# Altium footprint library A_Active.PcbLib: 13 footprints
Each footprint in its own frame and in the unit in brackets; x right, y up, seen from the top. Pads: shape width x height; smd on the part's side, far side on the other; paste and mask are expansions set on the pad; w line width, h text height; cw(c..) or ccw(c..) is an arc to the next point about the centre after c.
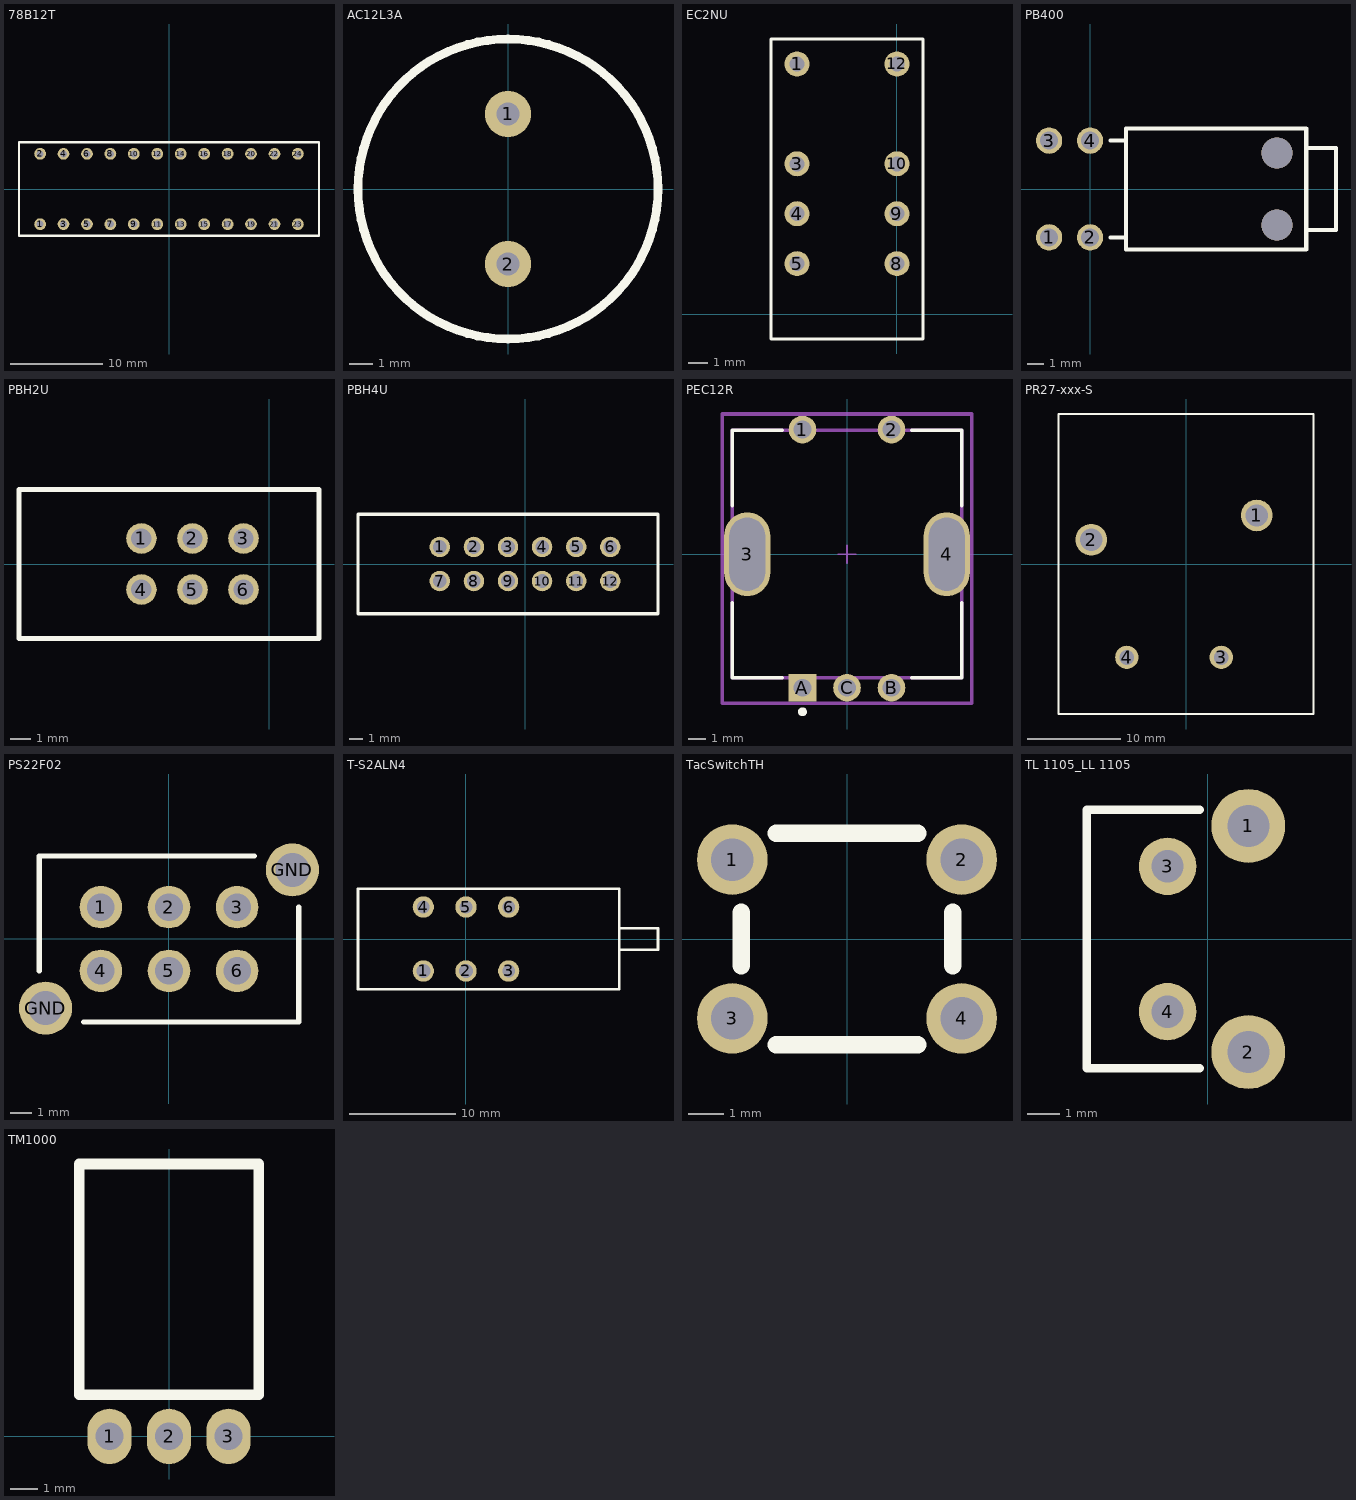
[diagram p0: the footprints below, top view; thin cyan lines are the x and y axes]

## 78B12T [mil]
pads (24):
  round 50 hole 30: 1(-550,-150) 2(-550,150) 3(-450,-150) 4(-450,150) 5(-350,-150) 6(-350,150) 7(-250,-150) 8(-250,150) 9(-150,-150) 10(-150,150) 11(-50,-150) 12(-50,150) 13(50,-150) 14(50,150) 15(150,-150) 16(150,150) 17(250,-150) 18(250,150) 19(350,-150) 20(350,150) 21(450,-150) 22(450,150) 23(550,-150) 24(550,150)
Top Overlay:
  lines w10: -640,-200 -640,200 640,200 640,-200 -640,-200

## AC12L3A [mm]
pads (2):
  round 2 hole 1 unplated: 1(0,3.25) 2(0,-3.25)
Top Overlay:
  circle w0.381: c0,0 r6.5
3D body: height 9, standoff 0, extent -6.5,-6.5 6.5,6.5

## EC2NU [mil]
pads (8):
  round 50 / inner round 60 / far side round 50 hole 30: 1(-200,501) 3(-200,301) 4(-200,201) 5(-200,101) 8(0,101) 9(0,201) 10(0,301) 12(0,501)
Top Overlay:
  lines w6: -252.5,-50 -252.5,551 52.5,551 52.5,-50 -252.5,-50
3D body "EC2NU.step": height 370.12, standoff -100, extent -247.48,-44.99 47.49,545.99

## PB400 [mm]
pads (6):
  round 1.6 hole 1.1: 1(-2.5,-2.95) 2(0,-2.95) 3(-2.5,2.95) 4(0,2.95)
  round 1.9 hole 1.9 unplated: ""(11.4,-2.2) ""(11.4,2.2)
Top Overlay:
  lines w0.254: 1.25,-2.95 2.19,-2.95 ; 1.25,2.95 2.19,2.95 ; 13.19,-2.5 15,-2.5 15,2.5 13.19,2.5 ; 2.19,-3.7 2.19,3.7 13.19,3.7 13.19,-3.7 2.19,-3.7
3D body "PB400xxQX.stp": height 10.32, standoff -2.43, extent -3.405,-3.7 24.205,3.7

## PBH2U [mm]
pads (6):
  round 1.5 hole 1: 1(-6.25,1.25) 2(-3.75,1.25) 3(-1.25,1.25) 4(-6.25,-1.25) 5(-3.75,-1.25) 6(-1.25,-1.25)
Top Overlay:
  lines w0.254: -12.25,-3.65 -12.25,3.65 2.45,3.65 2.45,-3.65 -12.25,-3.65
3D body "PHB2UEESN1ANS.stp": height 10.05, standoff -3.45, extent -23.05,-3.71 2.95,3.71
3D body: height 0.25, standoff 0, extent -6,0.25 -6,0.25

## PBH4U [mm]
pads (12):
  round 1.5 hole 1: 1(-6.25,1.25) 2(-3.75,1.25) 3(-1.25,1.25) 4(1.25,1.25) 5(3.75,1.25) 6(6.25,1.25) 7(-6.25,-1.25) 8(-3.75,-1.25) 9(-1.25,-1.25) 10(1.25,-1.25) 11(3.75,-1.25) 12(6.25,-1.25)
Top Overlay:
  lines w0.254: -12.25,-3.65 9.75,-3.65 9.75,3.65 -12.25,3.65 -12.25,-3.65
3D body "PHB4UEETS1ANS.stp": height 10.05, standoff -3.45, extent -23.05,-3.71 10.45,3.71

## PEC12R [mm]
pads (7):
  round 1.55 hole 1 paste-1000 mask+0: 1(-2.5,7) 2(2.5,7) B(2.5,-7.5) C(0,-7.5)
  rrect100% 2.6x4.7 hole 4.1 slot 2 at 0 deg paste-1000 mask+0: 3(-5.6,0) 4(5.6,0)
  rect 1.55x1.55 hole 1 paste-1000 mask+0: A(-2.5,-7.5)
Top Overlay:
  circle w0.25: c-2.5,-8.85 r0.125
  lines w0.2: -6.45,-2.725 -6.45,-6.95 -3.65,-6.95 ; -6.45,2.725 -6.45,6.95 -3.65,6.95 ; 3.65,-6.95 6.45,-6.95 6.45,-2.725 ; 3.65,6.95 6.45,6.95 6.45,2.725
Mechanical 10:
  lines w0.2: -7,-8.375 -7,7.875 7,7.875 7,-8.375 -7,-8.375
  text ".Designator" at 0,-0.062 h1
Mechanical 12:
  lines w0.2: -6.45,-6.95 -6.45,6.95 6.45,6.95 6.45,-6.95 -6.45,-6.95
Mechanical 15:
  lines w0.1: -0.5,0 0.5,0 ; 0,-0.5 0,0.5
  lines w0.2: -7,-8.375 -7,7.875 7,7.875 7,-8.375 -7,-8.375
3D body "Enc_Bourns_PEC12R-4225F-S0024_eec.STEP": height 0.25, standoff 0, extent -7,-8.375 7,7.875

## PR27-xxx-S [mm]
pads (4):
  round 3.4 hole 2.4 unplated mask+0.05: 1(7.6,5.215) 2(-10.17,2.615)
  round 2.5 hole 1.6 unplated mask+0.05: 3(3.79,-10.025) 4(-6.36,-10.025)
Top Overlay:
  lines w0.2: -13.7,-16.115 -13.7,16.115 13.7,16.115 13.7,-16.115 -13.7,-16.115
3D body: height 27.92, standoff 0.09, extent -13.7,-16.1 13.7,16.1

## PS22F02 [mm]
pads (8):
  round 2 hole 1.3: 1(-3.2,1.5) 2(0,1.5) 3(3.2,1.5) 4(-3.2,-1.5) 5(0,-1.5) 6(3.2,-1.5)
  round 2.5 hole 1.6: GND(-5.8,-3.25) GND(5.8,3.25)
Top Overlay:
  lines w0.254: -6.1,-1.5 -6.1,3.9 4,3.9 ; -4,-3.9 6.1,-3.9 6.1,1.5
3D body "PN22LENA03QE.stp": height 9.8, standoff -3.63, extent -18.897,-3.65 6.1,3.65
3D body: height 0.25, standoff 0, extent -6,0.25 -6,0.25

## T-S2ALN4 [mm]
pads (6):
  round 2 hole 1.3: 1(-4,-3) 2(0,-3)
  round 2 hole 1.2: 3(4,-3) 4(-4,3) 5(0,3) 6(4,3)
Top Overlay:
  lines w0.254: 14.375,-1 18,-1 18,1 14.375,1 ; -10.125,-4.7 14.375,-4.7 14.375,4.7 -10.125,4.7 -10.125,-4.7

## TacSwitchTH [mm]
pads (4):
  round 2 hole 1.2 unplated mask+0.05: 1(-3.25,2.25) 2(3.25,2.25) 3(-3.25,-2.25) 4(3.25,-2.25)
Top Overlay:
  lines w0.5: -3,-0.75 -3,0.75 ; -2,-3 2,-3 ; -2,3 2,3 ; 3,-0.75 3,0.75

## TL 1105_LL 1105 [mm]
pads (4):
  round 2.286 hole 1.3: 1(1.25,3.5) 2(1.25,-3.5)
  round 1.778 hole 1: 3(-1.25,2.25) 4(-1.25,-2.25)
Top Overlay:
  lines w0.254: -0.25,-4 -3.75,-4 -3.75,4 -0.25,4

## TM1000 [mm]
pads (3):
  oval 1.6x2 hole 1: 1(-2.15,0) 2(0,0) 3(2.15,0)
Top Overlay:
  lines w0.381: -3.25,1.5 -3.25,9.85 3.25,9.85 3.25,1.5 -3.25,1.5
3D body: height 6.5, standoff 0, extent -3.25,1.5 3.25,9.85